# EAGLE library part DP3T_SLIDE_SWITCH_13MM (library custom)
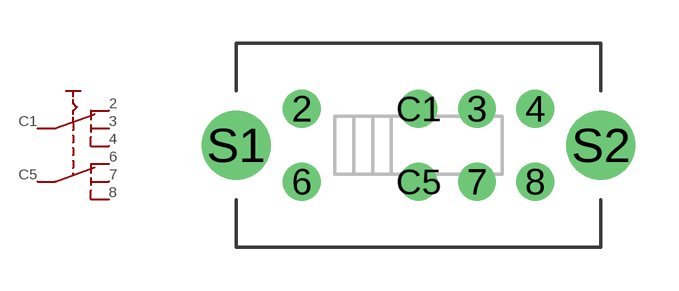
[diagram p15: symbol with the pads of DP3T_SLIDE_SWITCH_13MM; footprint DP3T_SLIDE_SWITCH_13MM]

Designator prefix -

## DP3T_SLIDE_SWITCH_13MM  [DP3T_SLIDE_SWITCH_13MM]
2  2
3  3
4  4
6  6
7  7
8  8
C1  C1
C5  C5

## Footprint DP3T_SLIDE_SWITCH_13MM (pad centres in mm)
drill 0.8: 2 -4.064,1.27; 3 2.032,1.27; 4 4.064,1.27; 6 -4.064,-1.27; 7 2.032,-1.27; 8 4.064,-1.27; C1 0,1.27; C5 0,-1.27
drill 1.6: S1 -6.35,0; S2 6.35,0